# EAGLE library part LANTRONIX_A/B (library NASA_LIB)
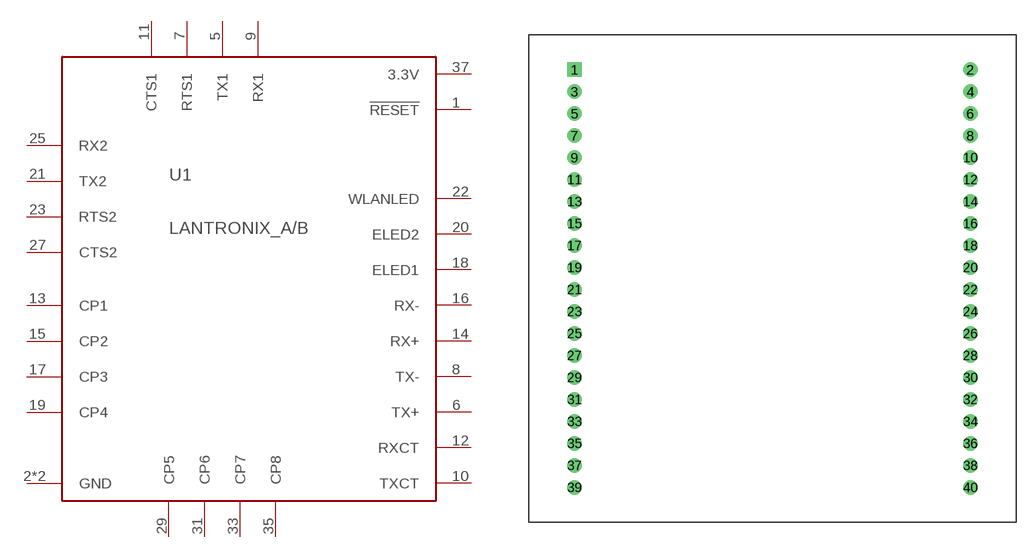
[diagram p23: symbol with the pads of LANA/BTH; footprint LANA/BTH]

Designator prefix U1

## LANTRONIX_A/B  [LANA/BTH]
1  !RESET
2  GND
5  TX1
6  TX+
7  RTS1
8  TX-
9  RX1
10  TXCT
11  CTS1
12  RXCT
13  CP1
14  RX+
15  CP2
16  RX-
17  CP3
18  ELED1
19  CP4
20  ELED2
21  TX2
22  WLANLED
23  RTS2
25  RX2
27  CTS2
29  CP5
31  CP6
33  CP7
35  CP8
37  3.3V
39  GND

## Footprint LANA/BTH (pad centres in mm)
drill 0.8 square: 1 -18.059,19.063
drill 0.8: 2 18.059,19.063; 3 -18.059,17.056; 4 18.059,17.056; 5 -18.059,15.05; 6 18.059,15.05; 7 -18.059,13.043; 8 18.059,13.043; 9 -18.059,11.036; 10 18.059,11.036; 11 -18.059,9.03; 12 18.059,9.03; 13 -18.059,7.023; 14 18.059,7.023; 15 -18.059,5.016; 16 18.059,5.016; 17 -18.059,3.01; 18 18.059,3.01; 19 -18.059,1.003; 20 18.059,1.003; 21 -18.059,-1.003; 22 18.059,-1.003; 23 -18.059,-3.01; 24 18.059,-3.01; 25 -18.059,-5.016; 26 18.059,-5.016; 27 -18.059,-7.023; 28 18.059,-7.023; 29 -18.059,-9.03; 30 18.059,-9.03; 31 -18.059,-11.036; 32 18.059,-11.036; 33 -18.059,-13.043; 34 18.059,-13.043; 35 -18.059,-15.05; 36 18.059,-15.05; 37 -18.059,-17.056; 38 18.059,-17.056; 39 -18.059,-19.063; 40 18.059,-19.063